# Altium integrated library Tactile Switches.IntLib: 3 symbols
Pins are listed as number, name and electrical type; pins without a type are passive.

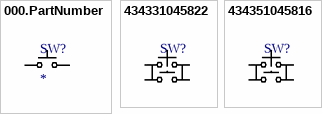
[diagram p0: symbols 000.PartNumber to 434351045816]

## 000.PartNumber
designator SW?
Digikey Description; Manufacturer: *; Series: *; Package: *; Circuit: *; Switch Function: *; Contact Rating @ Voltage: *; Actuator Type: *; Mounting Type: *; Actuator Height off PCB, Vertical: *; Actuator Length, Right Angle: *; Actuator Orientation: *; Termination Style: *; Outline: *; Illumination: *; Illumination Type, Color: *; Illumination Voltage (Nominal): *; Operating Force: *; Ingress Protection: *; Features: *; Operating Temperature: *; Actuator Material: *; Switch Travel: *; Mechanical Life: *; Ozdisan Link: *; Digikey Link: *; Farnell TR Link: *; Mouser Link: *
pins: 1, 2

## 434331045822
designator SW?  (value not drawn)
SWITCH TACTILE SPST-NO 0.05A 12V; Manufacturer: Würth Elektronik; Switch Function: Off-Mom; Contact Rating @ Voltage: 0.05A @ 12VDC; Actuator Type: Rectangular Button; Actuator Orientation: Side Actuated; Outline: 5.50mm x 3.50mm; Illumination: Non-Illuminated; Operating Force: 220gf; Actuator Material: Polyamide (PA46), Nylon 4/6; Switch Travel: 0.30mm; Mechanical Life: 100,000 Cycles; Series: WS-TASU; Package: Tape & Reel (TR); Circuit: SPST-NO; Mounting Type: Surface Mount, Right Angle; Actuator Height off PCB, Vertical: -; Actuator Length, Right Angle: -; Termination Style: SMD (SMT) Tab; Illumination Type, Color: -; Illumination Voltage (Nominal): -; Ingress Protection: -; Features: -; Operating Temperature: -40°C ~ 85°C; Ozdisan Link: -; Digikey Link: https://www.digikey.com/en/products/detail/w%C3%BCrth-elektronik/434331045822/5209088; Farnell TR Link: https://tr.farnell.com/wurth-elektronik/434331045822/switch-2-16n-side-push-blk-smd/dp/1867997?st=434331045822; Mouser Link: https://www.mouser.com.tr/ProductDetail/Wurth-Elektronik/434331045822?qs=%2Fha2pyFadugfh%2FwP104ers3UFJN39x5UnmyxxLgW1CBlY%252Bvs%2Fi4T0A%3D%3D
footprint WURTH_434331045822
pins: 1, 2, 3, 4

## 434351045816
designator SW?  (value not drawn)
SWITCH TACTILE SPST-NO 0.05A 12V; Manufacturer: Würth Elektronik; Switch Function: Off-Mom; Contact Rating @ Voltage: 0.05A @ 12VDC; Actuator Type: Rectangular Button; Actuator Orientation: Side Actuated; Outline: 5.50mm x 3.50mm; Illumination: Non-Illuminated; Operating Force: 160gf; Actuator Material: Polyamide (PA46), Nylon 4/6; Switch Travel: 0.25mm; Mechanical Life: 200,000 Cycles; Series: WS-TASU; Package: Tape & Reel (TR); Circuit: SPST-NO; Mounting Type: Surface Mount, Right Angle; Actuator Height off PCB, Vertical: -; Actuator Length, Right Angle: -; Termination Style: SMD (SMT) Tab; Illumination Type, Color: -; Illumination Voltage (Nominal): -; Ingress Protection: -; Features: -; Operating Temperature: -40°C ~ 85°C; Ozdisan Link: https://ozdisan.com/elektromekanik-komponentler/sivicler-ve-anahtarlar/tact-sivicler/434351045816; Digikey Link: https://www.digikey.com/en/products/detail/w%C3%BCrth-elektronik/434351045816/5209090?s=N4IgTCBcDaICwGZEFYCMAGOyAcqBsIAugL5A; Farnell TR Link: https://tr.farnell.com/wurth-elektronik/434351045816/switch-160gf-side-push-white-smd/dp/1867996?st=434351045816; Mouser Link: https://www.mouser.com.tr/ProductDetail/Wurth-Elektronik/434351045816?qs=%2Fha2pyFaduh6mU%2FN1reCcxt4yFQrfy%252Brg9GyxJVFSQ%2FB7DB1C6Yewg%3D%3D
footprint WURTH_434351045816
pins: 1, 2, 3, 4